# Altium schematic symbol library marvin)library.SchLib: 1 symbol
Pins are listed as number, name and electrical type; pins without a type are passive.

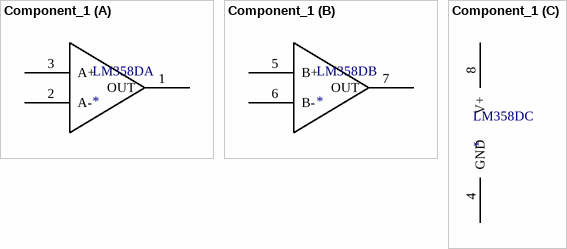
[diagram p0: symbol Component_1]

## Component_1
designator LM358D
footprint Micro8 (DFP; 8 Leads; Body 2.9 x 3.3 mm (LxW max); Pitch 0.635 mm)
part A pins: 1 OUT, 2 A-, 3 A+
part B pins: 5 B+, 6 B-, 7 OUT
part C pins: 4 GND (power), 8 V+ (power)